# EAGLE library part HT1621 (library IC & Transistor)
RAM Mapping 324 LCD Controller Created by: Wai Weng
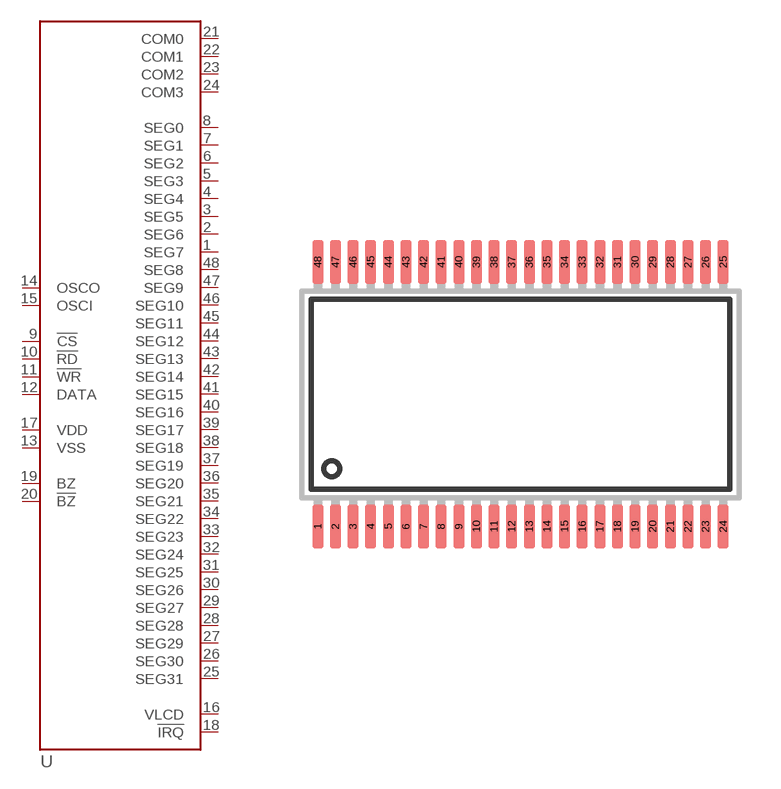
[diagram p58: symbol with the pads of SSOP-48; footprint SSOP-48]

Designator prefix U

## HT1621 (DESC: LCD Controller SSOP48; MF: Holtek; MPN: HT1621B)  [SSOP-48]
1  SEG7
2  SEG6
3  SEG5
4  SEG4
5  SEG3
6  SEG2
7  SEG1
8  SEG0
9  !CS
10  !RD
11  !WR
12  DATA
13  VSS
14  OSCO
15  OSCI
16  VLCD
17  VDD
18  !IRQ
19  BZ
20  !BZ
21  COM0
22  COM1
23  COM2
24  COM3
25  SEG31
26  SEG30
27  SEG29
28  SEG28
29  SEG27
30  SEG26
31  SEG25
32  SEG24
33  SEG23
34  SEG22
35  SEG21
36  SEG20
37  SEG19
38  SEG18
39  SEG17
40  SEG16
41  SEG15
42  SEG14
43  SEG13
44  SEG12
45  SEG11
46  SEG10
47  SEG9
48  SEG8

## Footprint SSOP-48 (pad centres in mm)
Shrink Small Outline Package (SSOP) Size: 15.9 x 7.5mm Lead Pitch: 0.64mm Created by: Wai Weng
smd 0.4 x 1.6: 1 -7.36,-4.8; 2 -6.72,-4.8; 3 -6.08,-4.8; 4 -5.44,-4.8; 5 -4.8,-4.8; 6 -4.16,-4.8; 7 -3.52,-4.8; 8 -2.88,-4.8; 9 -2.24,-4.8; 10 -1.6,-4.8; 11 -0.96,-4.8; 12 -0.32,-4.8; 13 0.32,-4.8; 14 0.96,-4.8; 15 1.6,-4.8; 16 2.24,-4.8; 17 2.88,-4.8; 18 3.52,-4.8; 19 4.16,-4.8; 20 4.8,-4.8; 21 5.44,-4.8; 22 6.08,-4.8; 23 6.72,-4.8; 24 7.36,-4.8; 25 7.36,4.8; 26 6.72,4.8; 27 6.08,4.8; 28 5.44,4.8; 29 4.8,4.8; 30 4.16,4.8; 31 3.52,4.8; 32 2.88,4.8; 33 2.24,4.8; 34 1.6,4.8; 35 0.96,4.8; 36 0.32,4.8; 37 -0.32,4.8; 38 -0.96,4.8; 39 -1.6,4.8; 40 -2.24,4.8; 41 -2.88,4.8; 42 -3.52,4.8; 43 -4.16,4.8; 44 -4.8,4.8; 45 -5.44,4.8; 46 -6.08,4.8; 47 -6.72,4.8; 48 -7.36,4.8